# Altium integrated library Capacitors.IntLib: 6 symbols
Pins are listed as number, name and electrical type; pins without a type are passive.

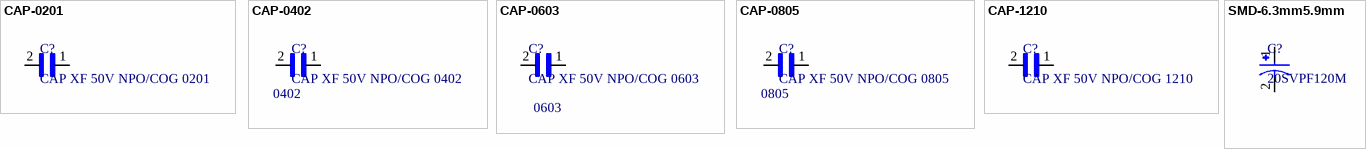
[diagram p0: symbols CAP-0201 to SMD-6.3mm5.9mm]

## CAP-0201
designator C?, comment CAP XF 50V NPO/COG 0201
Capacitance: *; Package: *; Tolerance: *; Voltage: *
footprint 0201(0603 METRIC)
pins: 1, 2

## CAP-0402
designator C?, comment CAP XF 50V NPO/COG 0402  Package: 0402
Capacitance: *; Dielectric: *; Voltage: *
footprint 0402(1005 METRIC)
pins: 1, 2

## CAP-0603
designator C?, comment CAP XF 50V NPO/COG 0603  Package: 0603
Capacitance: 22pF; Voltage: 10V; Price: None; Value: *; Availability: Unavailable; Dielectric: NPO/COG
footprint 0603(1608 METRIC)
pins: 1, 2

## CAP-0805
designator C?, comment CAP XF 50V NPO/COG 0805  Package: 0805
Voltage: *; Dielectric: *; Capacitance: *
footprint 0805(2012 METRIC)
pins: 1, 2

## CAP-1210
designator C?, comment CAP XF 50V NPO/COG 1210
Capacitance: *; Voltage: *; Dielectric: *; Package: 1210
footprint 1210(3225 METRIC)
pins: 1, 2

## SMD-6.3mm5.9mm
designator C?, comment 20SVPF120M
120F 20V Aluminum - Polymer Capacitors Radial, Can - SMD 25mOhm 5000 Hrs @ 105C; Manufacturer: Panasonic; Capacitance: 120uF; Manufacturer Part Number: 20SVPF120M; Voltage: 20V; Package: SMD-6.3mm5.9mm
footprint SMD-6.3mm5.9mm (Radial Aluminium Capacitor)
pins: 1, 2